# Altium footprint library Solar_PcbLib1.PcbLib: 17 footprints (part 2 of 2)
Each footprint in its own frame and in the unit in brackets; x right, y up, seen from the top. Pads: shape width x height; smd on the part's side, far side on the other; paste and mask are expansions set on the pad; w line width, h text height; cw(c..) or ccw(c..) is an arc to the next point about the centre after c.
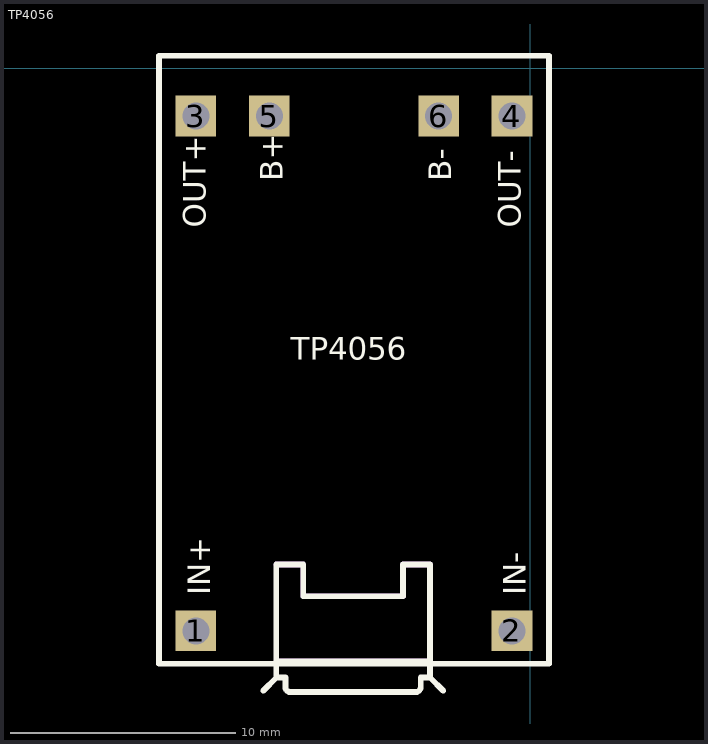
[diagram p1: the footprint, top view; thin cyan lines are the x and y axes]

## TP4056 [mm] "BAT CHARGER"
pads (6):
  rect 1.8x1.8 hole 1.199: 1(-14.817,-24.922) 2(-0.817,-24.922) 3(-14.817,-2.118) 4(-0.817,-2.118) 5(-11.566,-2.118) 6(-4.068,-2.118)
Top Overlay:
  lines w0.254: -11.838,-27.575 -11.254,-26.991 ; -11.254,-23.587 -11.254,-21.987 ; -10.86,-27.386 ccw(c-10.621,-27.399) -10.659,-27.635 ; -10.847,-27.372 -10.847,-26.991 -11.254,-26.991 ; -10.644,-27.626 -5.107,-27.626 ; -5.109,-27.635 ccw(c-5.096,-27.396) -4.86,-27.437 ; -4.853,-27.423 -4.853,-26.991 -4.446,-26.991 ; -4.446,-23.587 -4.446,-21.987 ; -3.862,-27.575 -4.446,-26.991 ; -11.254,-26.991 -11.254,-26.28 ; -11.254,-26.28 -4.446,-26.28 ; -11.254,-26.28 -11.254,-21.987 ; -11.254,-21.987 -10.06,-21.987 -10.06,-23.384 -5.64,-23.384 -5.64,-21.987 -4.446,-21.987 ; -4.446,-26.991 -4.446,-26.28 ; -4.446,-26.28 -4.446,-21.987 ; -16.451,-26.374 0.821,-26.374 0.821,0.55 -16.451,0.55 -16.451,-26.374
  text "TP4056" at -10.611,-12.913 h1
  text "IN-" at -0.205,-23.335 h1
  text "IN+" at -14.175,-23.335 h1
  text "OUT-" at -0.421,-7.074 h1
  text "B-" at -3.512,-5.014 h1
  text "B+" at -10.975,-5.006 h1
  text "OUT+" at -14.391,-7.074 h1
Mechanical 15:
  lines w0.254: -11.254,-26.28 -4.446,-26.28 ; -11.254,-21.987 -10.06,-21.987 -10.06,-23.384 -5.64,-23.384 -5.64,-21.987 -4.446,-21.987